# Altium integrated library Xilinx Spartan XL.IntLib: 50 symbols (part 1 of 5)
Pins are listed as number, name and electrical type; pins without a type are passive.

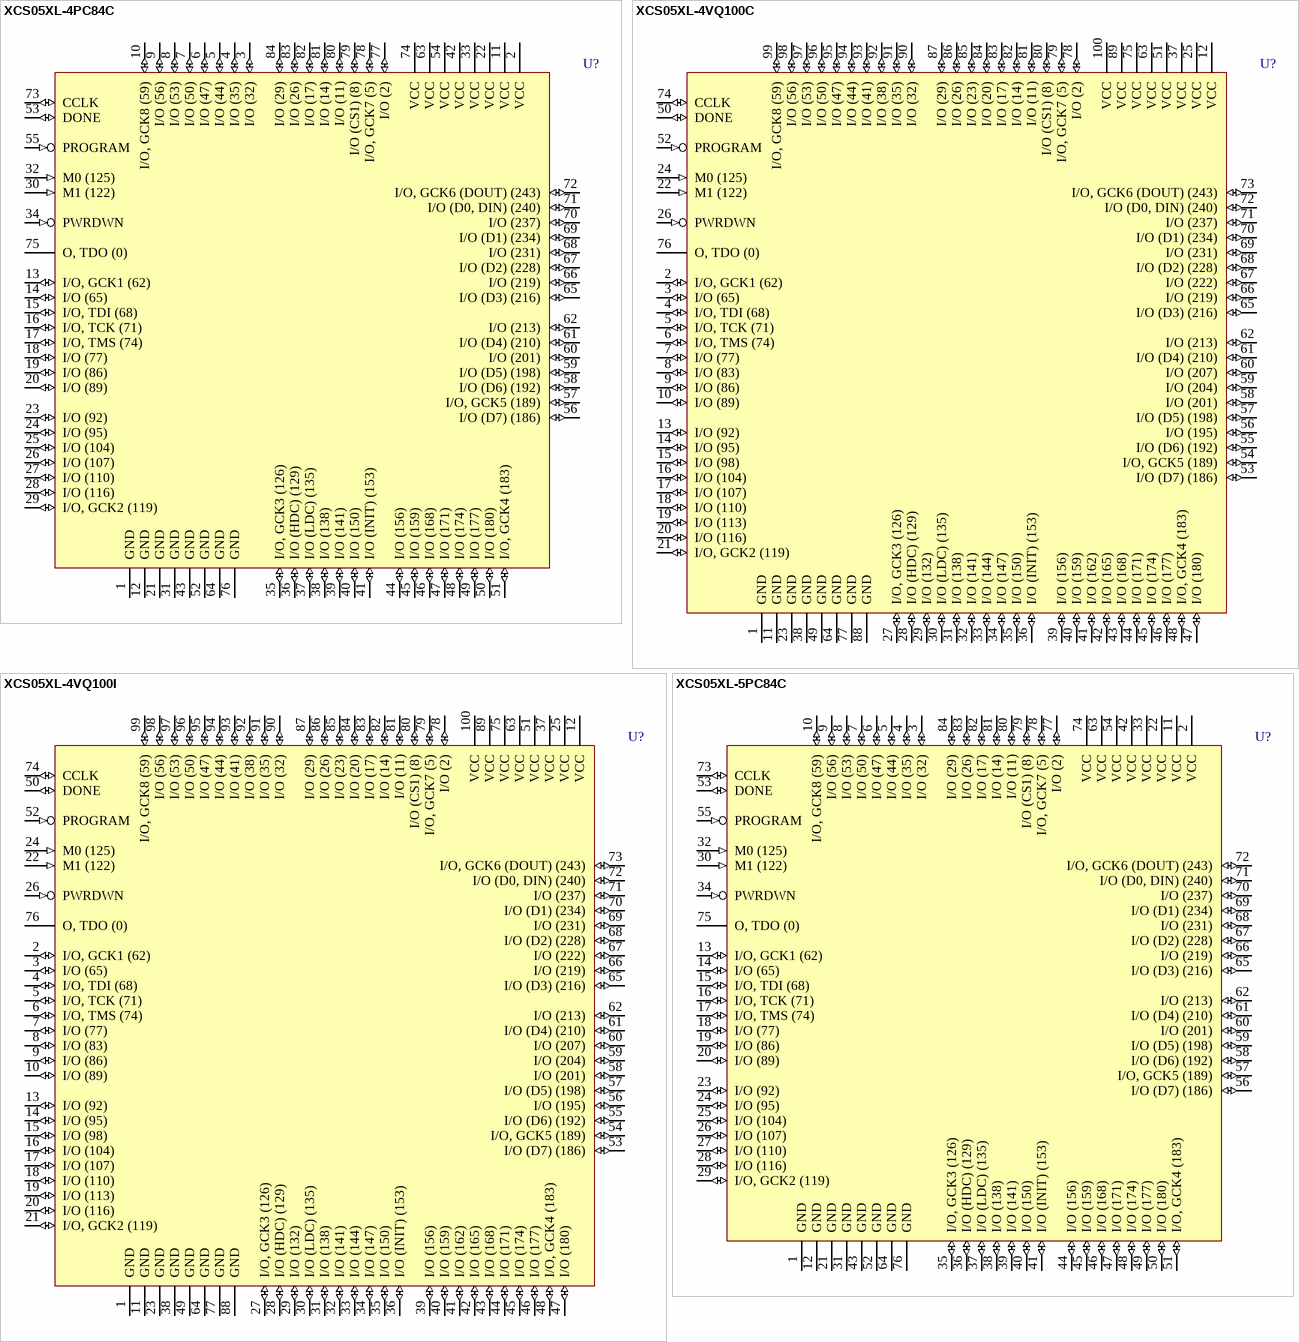
[diagram p0: symbols XCS05XL-4PC84C to XCS05XL-5PC84C]

## XCS05XL-4PC84C
designator U?
Spartan XL FPGA, 61 User I/Os, 84-Pin PLCC, Speed Grade 4, Commercial Grade; Published: 13-Jul-2001; LatestRevisionDate: 16-Nov-2009; LatestRevisionNote: Updated to datasheet version 1.8 Jun-2008; DatasheetVersion: ver1.8, Jun-2008; PackageVersion: ver1.2, Jun-2004; PackageReference: PC84; Publisher: Altium Limited; PackageDescription: 84-Pin Plastic Leaded Chip Carrier (PC84); Supplier 1: Digi-Key; Supplier Part Number 1: XCS05XL-4PC84C-ND; Code_JEDEC: MS-047; Code_IPC: PLCC-84; ComponentLink1Description: Spartan(XL) Datasheet; ComponentLink1URL: http://www.xilinx.com/support/documentation/data_sheets/ds060.pdf; ComponentLink2Description: Discontinuation Notice; ComponentLink2URL: http://www.xilinx.com/support/documentation/customer_notices/pdn2004-01.pdf; ComponentLink3Description: PC84 Package Drawing; ComponentLink3URL: http://www.xilinx.com/support/documentation/package_specs/pc84.pdf; ComponentLink4Description: Spartan(XL) Documents; ComponentLink4URL: http://www.xilinx.com/support/documentation/spartan-xl.htm; ComponentLink5Description: Xilinx.com Home; ComponentLink5URL: http://www.xilinx.com
footprint PC84_N (Leaded Chip Carrier, 84-Leads, Body 29.3x29.3mm, Pitch 1.27mm, IPC Medium Density)
footprint PC84_L (Leaded Chip Carrier, 84-Leads, Body 29.3x29.3mm, Pitch 1.27mm, IPC High Density)
footprint PC84_M (Leaded Chip Carrier, 84-Leads, Body 29.3x29.3mm, Pitch 1.27mm, IPC Low Density)
pins: 1 GND (power), 2 VCC (power), 3 I/O (32) (io), 4 I/O (35) (io), 5 I/O (44) (io), 6 I/O (47) (io), 7 I/O (50) (io), 8 I/O (53) (io), 9 I/O (56) (io), 10 I/O, GCK8 (59) (io), 11 VCC (power), 12 GND (power), 13 I/O, GCK1 (62) (io), 14 I/O (65) (io), 15 I/O, TDI (68) (io), 16 I/O, TCK (71) (io), 17 I/O, TMS (74) (io), 18 I/O (77) (io), 19 I/O (86) (io), 20 I/O (89) (io), 21 GND (power), 22 VCC (power), 23 I/O (92) (io), 24 I/O (95) (io), 25 I/O (104) (io), 26 I/O (107) (io), 27 I/O (110) (io), 28 I/O (116) (io), 29 I/O, GCK2 (119) (io), 30 M1 (122) (in), 31 GND (power), 32 M0 (125) (in), 33 VCC (power), 34 PWRDWN (in), 35 I/O, GCK3 (126) (io), 36 I/O (HDC) (129) (io), 37 I/O (LDC) (135) (io), 38 I/O (138) (io), 39 I/O (141) (io), 40 I/O (150) (io), 41 I/O (INIT) (153) (io), 42 VCC (power), 43 GND (power), 44 I/O (156) (io), 45 I/O (159) (io), 46 I/O (168) (io), 47 I/O (171) (io), 48 I/O (174) (io), 49 I/O (177) (io), 50 I/O (180) (io), 51 I/O, GCK4 (183) (io), 52 GND (power), 53 DONE (io), 54 VCC (power), 55 PROGRAM (in), 56 I/O (D7) (186) (io), 57 I/O, GCK5 (189) (io), 58 I/O (D6) (192) (io), 59 I/O (D5) (198) (io), 60 I/O (201) (io), 61 I/O (D4) (210) (io), 62 I/O (213) (io), 63 VCC (power), 64 GND (power), 65 I/O (D3) (216) (io), 66 I/O (219) (io), 67 I/O (D2) (228) (io), 68 I/O (231) (io), 69 I/O (D1) (234) (io), 70 I/O (237) (io), 71 I/O (D0, DIN) (240) (io), 72 I/O, GCK6 (DOUT) (243) (io), 73 CCLK (io), 74 VCC (power), 75 O, TDO (0) (hiz), 76 GND (power), 77 I/O (2) (io), 78 I/O, GCK7 (5) (io), 79 I/O (CS1) (8) (io), 80 I/O (11) (io), 81 I/O (14) (io), 82 I/O (17) (io), 83 I/O (26) (io), 84 I/O (29) (io)

## XCS05XL-4VQ100C
designator U?
Spartan XL FPGA, 77 User I/Os, 100-Pin VQFP, Speed Grade 4, Commercial Grade; Published: 13-Jul-2001; LatestRevisionDate: 16-Nov-2009; LatestRevisionNote: Updated to datasheet version 1.8 Jun-2008; DatasheetVersion: ver1.8, Jun-2008; PackageVersion: ver1.2.1, Feb-2007; PackageReference: VQ100; Publisher: Altium Limited; PackageDescription: 100-Pin Very Thin Quad Flat Pack (VQ100); Supplier 1: Digi-Key; Supplier Part Number 1: XCS05XL-4VQ100C-ND; Supplier 2: Farnell; Supplier Part Number 2: 3849107; Supplier 3: Newark; Supplier Part Number 3: 10N9195; Code_JEDEC: MS-026-AED; ComponentLink1Description: Spartan(XL) Datasheet; ComponentLink1URL: http://www.xilinx.com/support/documentation/data_sheets/ds060.pdf; ComponentLink2Description: VQ100 Package Drawing; ComponentLink2URL: http://www.xilinx.com/support/documentation/package_specs/vq100.pdf; ComponentLink3Description: Spartan(XL) Documents; ComponentLink3URL: http://www.xilinx.com/support/documentation/spartan-xl.htm; ComponentLink4Description: Xilinx.com Home; ComponentLink4URL: http://www.xilinx.com
footprint VQ100_N (Thin QFP, 100-Leads, Body 14x14mm, Pitch 0.5mm, IPC Medium Density)
footprint VQ100_L (Thin QFP, 100-Leads, Body 14x14mm, Pitch 0.5mm, IPC High Density)
footprint VQ100_M (Thin QFP, 100-Leads, Body 14x14mm, Pitch 0.5mm, IPC Low Density)
pins: 1 GND (power), 2 I/O, GCK1 (62) (io), 3 I/O (65) (io), 4 I/O, TDI (68) (io), 5 I/O, TCK (71) (io), 6 I/O, TMS (74) (io), 7 I/O (77) (io), 8 I/O (83) (io), 9 I/O (86) (io), 10 I/O (89) (io), 11 GND (power), 12 VCC (power), 13 I/O (92) (io), 14 I/O (95) (io), 15 I/O (98) (io), 16 I/O (104) (io), 17 I/O (107) (io), 18 I/O (110) (io), 19 I/O (113) (io), 20 I/O (116) (io), 21 I/O, GCK2 (119) (io), 22 M1 (122) (in), 23 GND (power), 24 M0 (125) (in), 25 VCC (power), 26 PWRDWN (in), 27 I/O, GCK3 (126) (io), 28 I/O (HDC) (129) (io), 29 I/O (132) (io), 30 I/O (LDC) (135) (io), 31 I/O (138) (io), 32 I/O (141) (io), 33 I/O (144) (io), 34 I/O (147) (io), 35 I/O (150) (io), 36 I/O (INIT) (153) (io), 37 VCC (power), 38 GND (power), 39 I/O (156) (io), 40 I/O (159) (io), 41 I/O (162) (io), 42 I/O (165) (io), 43 I/O (168) (io), 44 I/O (171) (io), 45 I/O (174) (io), 46 I/O (177) (io), 47 I/O (180) (io), 48 I/O, GCK4 (183) (io), 49 GND (power), 50 DONE (io), 51 VCC (power), 52 PROGRAM (in), 53 I/O (D7) (186) (io), 54 I/O, GCK5 (189) (io), 55 I/O (D6) (192) (io), 56 I/O (195) (io), 57 I/O (D5) (198) (io), 58 I/O (201) (io), 59 I/O (204) (io), 60 I/O (207) (io), 61 I/O (D4) (210) (io), 62 I/O (213) (io), 63 VCC (power), 64 GND (power), 65 I/O (D3) (216) (io), 66 I/O (219) (io), 67 I/O (222) (io), 68 I/O (D2) (228) (io), 69 I/O (231) (io), 70 I/O (D1) (234) (io), 71 I/O (237) (io), 72 I/O (D0, DIN) (240) (io), 73 I/O, GCK6 (DOUT) (243) (io), 74 CCLK (io), 75 VCC (power), 76 O, TDO (0) (hiz), 77 GND (power), 78 I/O (2) (io), 79 I/O, GCK7 (5) (io), 80 I/O (CS1) (8) (io), 81 I/O (11) (io), 82 I/O (14) (io), 83 I/O (17) (io), 84 I/O (20) (io), 85 I/O (23) (io), 86 I/O (26) (io), 87 I/O (29) (io), 88 GND (power), 89 VCC (power), 90 I/O (32) (io), 91 I/O (35) (io), 92 I/O (38) (io), 93 I/O (41) (io), 94 I/O (44) (io), 95 I/O (47) (io), 96 I/O (50) (io), 97 I/O (53) (io), 98 I/O (56) (io), 99 I/O, GCK8 (59) (io), 100 VCC (power)

## XCS05XL-4VQ100I
designator U?
Spartan XL FPGA, 77 User I/Os, 100-Pin VQFP, Speed Grade 4, Industrial Grade; Published: 13-Jul-2001; LatestRevisionDate: 16-Nov-2009; LatestRevisionNote: Updated to datasheet version 1.8 Jun-2008; DatasheetVersion: ver1.8, Jun-2008; PackageVersion: ver1.2.1, Feb-2007; PackageReference: VQ100; Publisher: Altium Limited; PackageDescription: 100-Pin Very Thin Quad Flat Pack (VQ100); Supplier 1: Digi-Key; Supplier Part Number 1: XCS05XL-4VQ100I-ND; Code_JEDEC: MS-026-AED; ComponentLink1Description: Spartan(XL) Datasheet; ComponentLink1URL: http://www.xilinx.com/support/documentation/data_sheets/ds060.pdf; ComponentLink2Description: VQ100 Package Drawing; ComponentLink2URL: http://www.xilinx.com/support/documentation/package_specs/vq100.pdf; ComponentLink3Description: Spartan(XL) Documents; ComponentLink3URL: http://www.xilinx.com/support/documentation/spartan-xl.htm; ComponentLink4Description: Xilinx.com Home; ComponentLink4URL: http://www.xilinx.com
footprint VQ100_N (Thin QFP, 100-Leads, Body 14x14mm, Pitch 0.5mm, IPC Medium Density)
footprint VQ100_L (Thin QFP, 100-Leads, Body 14x14mm, Pitch 0.5mm, IPC High Density)
footprint VQ100_M (Thin QFP, 100-Leads, Body 14x14mm, Pitch 0.5mm, IPC Low Density)
pins: 1 GND (power), 2 I/O, GCK1 (62) (io), 3 I/O (65) (io), 4 I/O, TDI (68) (io), 5 I/O, TCK (71) (io), 6 I/O, TMS (74) (io), 7 I/O (77) (io), 8 I/O (83) (io), 9 I/O (86) (io), 10 I/O (89) (io), 11 GND (power), 12 VCC (power), 13 I/O (92) (io), 14 I/O (95) (io), 15 I/O (98) (io), 16 I/O (104) (io), 17 I/O (107) (io), 18 I/O (110) (io), 19 I/O (113) (io), 20 I/O (116) (io), 21 I/O, GCK2 (119) (io), 22 M1 (122) (in), 23 GND (power), 24 M0 (125) (in), 25 VCC (power), 26 PWRDWN (in), 27 I/O, GCK3 (126) (io), 28 I/O (HDC) (129) (io), 29 I/O (132) (io), 30 I/O (LDC) (135) (io), 31 I/O (138) (io), 32 I/O (141) (io), 33 I/O (144) (io), 34 I/O (147) (io), 35 I/O (150) (io), 36 I/O (INIT) (153) (io), 37 VCC (power), 38 GND (power), 39 I/O (156) (io), 40 I/O (159) (io), 41 I/O (162) (io), 42 I/O (165) (io), 43 I/O (168) (io), 44 I/O (171) (io), 45 I/O (174) (io), 46 I/O (177) (io), 47 I/O (180) (io), 48 I/O, GCK4 (183) (io), 49 GND (power), 50 DONE (io), 51 VCC (power), 52 PROGRAM (in), 53 I/O (D7) (186) (io), 54 I/O, GCK5 (189) (io), 55 I/O (D6) (192) (io), 56 I/O (195) (io), 57 I/O (D5) (198) (io), 58 I/O (201) (io), 59 I/O (204) (io), 60 I/O (207) (io), 61 I/O (D4) (210) (io), 62 I/O (213) (io), 63 VCC (power), 64 GND (power), 65 I/O (D3) (216) (io), 66 I/O (219) (io), 67 I/O (222) (io), 68 I/O (D2) (228) (io), 69 I/O (231) (io), 70 I/O (D1) (234) (io), 71 I/O (237) (io), 72 I/O (D0, DIN) (240) (io), 73 I/O, GCK6 (DOUT) (243) (io), 74 CCLK (io), 75 VCC (power), 76 O, TDO (0) (hiz), 77 GND (power), 78 I/O (2) (io), 79 I/O, GCK7 (5) (io), 80 I/O (CS1) (8) (io), 81 I/O (11) (io), 82 I/O (14) (io), 83 I/O (17) (io), 84 I/O (20) (io), 85 I/O (23) (io), 86 I/O (26) (io), 87 I/O (29) (io), 88 GND (power), 89 VCC (power), 90 I/O (32) (io), 91 I/O (35) (io), 92 I/O (38) (io), 93 I/O (41) (io), 94 I/O (44) (io), 95 I/O (47) (io), 96 I/O (50) (io), 97 I/O (53) (io), 98 I/O (56) (io), 99 I/O, GCK8 (59) (io), 100 VCC (power)

## XCS05XL-5PC84C
designator U?
Spartan XL FPGA, 61 User I/Os, 84-Pin PLCC, Speed Grade 5, Commercial Grade; Published: 13-Jul-2001; LatestRevisionDate: 16-Nov-2009; LatestRevisionNote: Updated to datasheet version 1.8 Jun-2008; DatasheetVersion: ver1.8, Jun-2008; PackageVersion: ver1.2, Jun-2004; PackageReference: PC84; Publisher: Altium Limited; PackageDescription: 84-Pin Plastic Leaded Chip Carrier (PC84); Supplier 1: Digi-Key; Supplier Part Number 1: XCS05XL-5PC84C-ND; Code_JEDEC: MS-047; Code_IPC: PLCC-84; ComponentLink1Description: Spartan(XL) Datasheet; ComponentLink1URL: http://www.xilinx.com/support/documentation/data_sheets/ds060.pdf; ComponentLink2Description: Discontinuation Notice; ComponentLink2URL: http://www.xilinx.com/support/documentation/customer_notices/pdn2004-01.pdf; ComponentLink3Description: PC84 Package Drawing; ComponentLink3URL: http://www.xilinx.com/support/documentation/package_specs/pc84.pdf; ComponentLink4Description: Spartan(XL) Documents; ComponentLink4URL: http://www.xilinx.com/support/documentation/spartan-xl.htm; ComponentLink5Description: Xilinx.com Home; ComponentLink5URL: http://www.xilinx.com
footprint PC84_N (Leaded Chip Carrier, 84-Leads, Body 29.3x29.3mm, Pitch 1.27mm, IPC Medium Density)
footprint PC84_L (Leaded Chip Carrier, 84-Leads, Body 29.3x29.3mm, Pitch 1.27mm, IPC High Density)
footprint PC84_M (Leaded Chip Carrier, 84-Leads, Body 29.3x29.3mm, Pitch 1.27mm, IPC Low Density)
pins: 1 GND (power), 2 VCC (power), 3 I/O (32) (io), 4 I/O (35) (io), 5 I/O (44) (io), 6 I/O (47) (io), 7 I/O (50) (io), 8 I/O (53) (io), 9 I/O (56) (io), 10 I/O, GCK8 (59) (io), 11 VCC (power), 12 GND (power), 13 I/O, GCK1 (62) (io), 14 I/O (65) (io), 15 I/O, TDI (68) (io), 16 I/O, TCK (71) (io), 17 I/O, TMS (74) (io), 18 I/O (77) (io), 19 I/O (86) (io), 20 I/O (89) (io), 21 GND (power), 22 VCC (power), 23 I/O (92) (io), 24 I/O (95) (io), 25 I/O (104) (io), 26 I/O (107) (io), 27 I/O (110) (io), 28 I/O (116) (io), 29 I/O, GCK2 (119) (io), 30 M1 (122) (in), 31 GND (power), 32 M0 (125) (in), 33 VCC (power), 34 PWRDWN (in), 35 I/O, GCK3 (126) (io), 36 I/O (HDC) (129) (io), 37 I/O (LDC) (135) (io), 38 I/O (138) (io), 39 I/O (141) (io), 40 I/O (150) (io), 41 I/O (INIT) (153) (io), 42 VCC (power), 43 GND (power), 44 I/O (156) (io), 45 I/O (159) (io), 46 I/O (168) (io), 47 I/O (171) (io), 48 I/O (174) (io), 49 I/O (177) (io), 50 I/O (180) (io), 51 I/O, GCK4 (183) (io), 52 GND (power), 53 DONE (io), 54 VCC (power), 55 PROGRAM (in), 56 I/O (D7) (186) (io), 57 I/O, GCK5 (189) (io), 58 I/O (D6) (192) (io), 59 I/O (D5) (198) (io), 60 I/O (201) (io), 61 I/O (D4) (210) (io), 62 I/O (213) (io), 63 VCC (power), 64 GND (power), 65 I/O (D3) (216) (io), 66 I/O (219) (io), 67 I/O (D2) (228) (io), 68 I/O (231) (io), 69 I/O (D1) (234) (io), 70 I/O (237) (io), 71 I/O (D0, DIN) (240) (io), 72 I/O, GCK6 (DOUT) (243) (io), 73 CCLK (io), 74 VCC (power), 75 O, TDO (0) (hiz), 76 GND (power), 77 I/O (2) (io), 78 I/O, GCK7 (5) (io), 79 I/O (CS1) (8) (io), 80 I/O (11) (io), 81 I/O (14) (io), 82 I/O (17) (io), 83 I/O (26) (io), 84 I/O (29) (io)

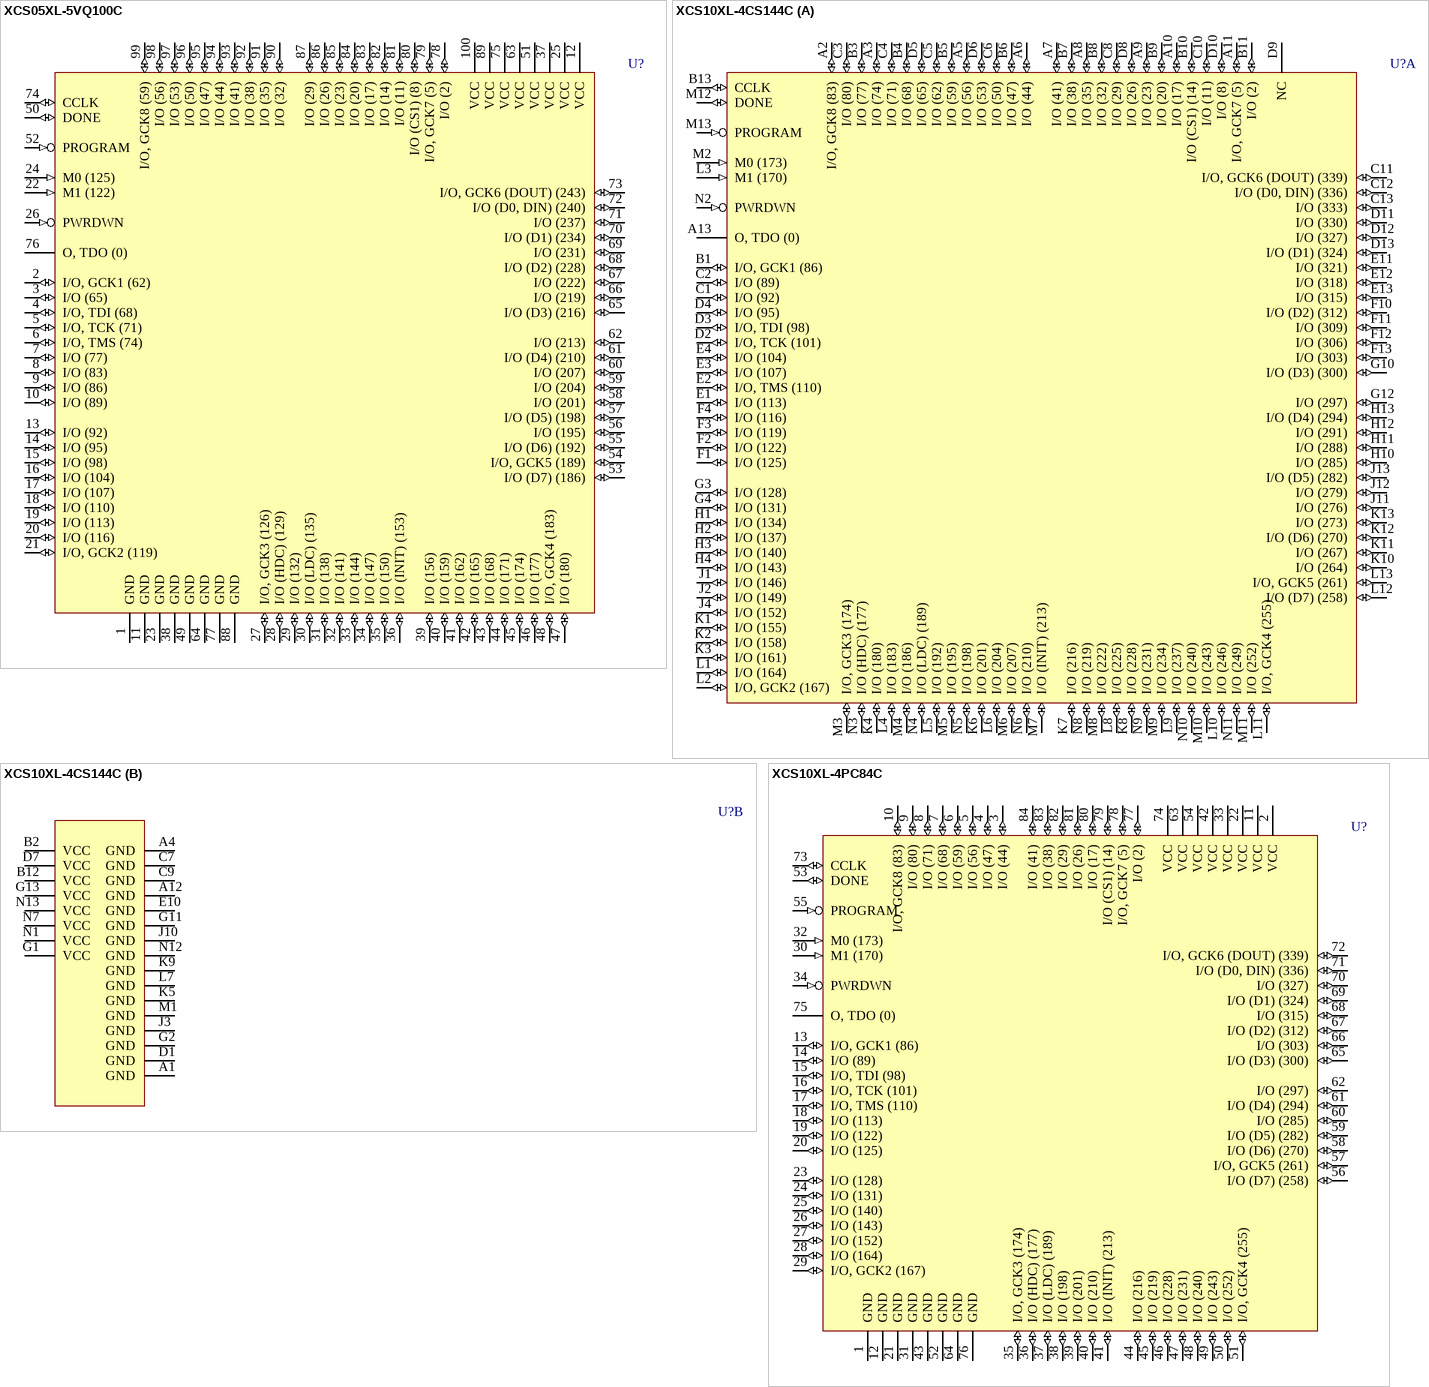
[diagram p1: symbols XCS05XL-5VQ100C to XCS10XL-4PC84C]

## XCS05XL-5VQ100C
designator U?
Spartan XL FPGA, 77 User I/Os, 100-Pin VQFP, Speed Grade 5, Commercial Grade; Published: 13-Jul-2001; LatestRevisionDate: 16-Nov-2009; LatestRevisionNote: Updated to datasheet version 1.8 Jun-2008; DatasheetVersion: ver1.8, Jun-2008; PackageVersion: ver1.2.1, Feb-2007; PackageReference: VQ100; Publisher: Altium Limited; PackageDescription: 100-Pin Very Thin Quad Flat Pack (VQ100); Supplier 1: Digi-Key; Supplier Part Number 1: XCS05XL-5VQ100C-ND; Code_JEDEC: MS-026-AED; ComponentLink1Description: Spartan(XL) Datasheet; ComponentLink1URL: http://www.xilinx.com/support/documentation/data_sheets/ds060.pdf; ComponentLink2Description: VQ100 Package Drawing; ComponentLink2URL: http://www.xilinx.com/support/documentation/package_specs/vq100.pdf; ComponentLink3Description: Spartan(XL) Documents; ComponentLink3URL: http://www.xilinx.com/support/documentation/spartan-xl.htm; ComponentLink4Description: Xilinx.com Home; ComponentLink4URL: http://www.xilinx.com
footprint VQ100_N (Thin QFP, 100-Leads, Body 14x14mm, Pitch 0.5mm, IPC Medium Density)
footprint VQ100_L (Thin QFP, 100-Leads, Body 14x14mm, Pitch 0.5mm, IPC High Density)
footprint VQ100_M (Thin QFP, 100-Leads, Body 14x14mm, Pitch 0.5mm, IPC Low Density)
pins: 1 GND (power), 2 I/O, GCK1 (62) (io), 3 I/O (65) (io), 4 I/O, TDI (68) (io), 5 I/O, TCK (71) (io), 6 I/O, TMS (74) (io), 7 I/O (77) (io), 8 I/O (83) (io), 9 I/O (86) (io), 10 I/O (89) (io), 11 GND (power), 12 VCC (power), 13 I/O (92) (io), 14 I/O (95) (io), 15 I/O (98) (io), 16 I/O (104) (io), 17 I/O (107) (io), 18 I/O (110) (io), 19 I/O (113) (io), 20 I/O (116) (io), 21 I/O, GCK2 (119) (io), 22 M1 (122) (in), 23 GND (power), 24 M0 (125) (in), 25 VCC (power), 26 PWRDWN (in), 27 I/O, GCK3 (126) (io), 28 I/O (HDC) (129) (io), 29 I/O (132) (io), 30 I/O (LDC) (135) (io), 31 I/O (138) (io), 32 I/O (141) (io), 33 I/O (144) (io), 34 I/O (147) (io), 35 I/O (150) (io), 36 I/O (INIT) (153) (io), 37 VCC (power), 38 GND (power), 39 I/O (156) (io), 40 I/O (159) (io), 41 I/O (162) (io), 42 I/O (165) (io), 43 I/O (168) (io), 44 I/O (171) (io), 45 I/O (174) (io), 46 I/O (177) (io), 47 I/O (180) (io), 48 I/O, GCK4 (183) (io), 49 GND (power), 50 DONE (io), 51 VCC (power), 52 PROGRAM (in), 53 I/O (D7) (186) (io), 54 I/O, GCK5 (189) (io), 55 I/O (D6) (192) (io), 56 I/O (195) (io), 57 I/O (D5) (198) (io), 58 I/O (201) (io), 59 I/O (204) (io), 60 I/O (207) (io), 61 I/O (D4) (210) (io), 62 I/O (213) (io), 63 VCC (power), 64 GND (power), 65 I/O (D3) (216) (io), 66 I/O (219) (io), 67 I/O (222) (io), 68 I/O (D2) (228) (io), 69 I/O (231) (io), 70 I/O (D1) (234) (io), 71 I/O (237) (io), 72 I/O (D0, DIN) (240) (io), 73 I/O, GCK6 (DOUT) (243) (io), 74 CCLK (io), 75 VCC (power), 76 O, TDO (0) (hiz), 77 GND (power), 78 I/O (2) (io), 79 I/O, GCK7 (5) (io), 80 I/O (CS1) (8) (io), 81 I/O (11) (io), 82 I/O (14) (io), 83 I/O (17) (io), 84 I/O (20) (io), 85 I/O (23) (io), 86 I/O (26) (io), 87 I/O (29) (io), 88 GND (power), 89 VCC (power), 90 I/O (32) (io), 91 I/O (35) (io), 92 I/O (38) (io), 93 I/O (41) (io), 94 I/O (44) (io), 95 I/O (47) (io), 96 I/O (50) (io), 97 I/O (53) (io), 98 I/O (56) (io), 99 I/O, GCK8 (59) (io), 100 VCC (power)

## XCS10XL-4CS144C
designator U?
Spartan XL FPGA, 112 User I/Os, 144-Ball CSBGA, Speed Grade 4, Commercial Grade; Published: 13-Jul-2001; LatestRevisionDate: 16-Nov-2009; LatestRevisionNote: Updated to datasheet version 1.8 Jun-2008; DatasheetVersion: ver1.8, Jun-2008; PackageVersion: ver1.3, Jan-2007; PackageReference: CS144; Publisher: Altium Limited; PackageDescription: 144-Ball Chip Scale Ball Grid Array (CS144); Supplier 1: Digi-Key; Supplier Part Number 1: XCS10XL-4CS144C-ND; Code_JEDEC: MO-216-BAG-2 (Depopulated); ComponentLink1Description: Spartan(XL) Datasheet; ComponentLink1URL: http://www.xilinx.com/support/documentation/data_sheets/ds060.pdf; ComponentLink2Description: Discontinuation Notice; ComponentLink2URL: http://www.xilinx.com/support/documentation/customer_notices/pdn2004-01.pdf; ComponentLink3Description: CS144 Package Drawing; ComponentLink3URL: http://www.xilinx.com/support/documentation/package_specs/cs144.pdf; ComponentLink4Description: Spartan(XL) Documents; ComponentLink4URL: http://www.xilinx.com/support/documentation/spartan-xl.htm; ComponentLink5Description: Xilinx.com Home; ComponentLink5URL: http://www.xilinx.com
footprint CS144 (BGA, 144-Leads, Body 12x12mm, Pitch 0.8mm)
part A pins: A2 I/O, GCK8 (83) (io), A3 I/O (74) (io), A5 I/O (56) (io), A6 I/O (44) (io), A7 I/O (41) (io), A8 I/O (35) (io), A9 I/O (23) (io), A10 I/O (17) (io), A11 I/O, GCK7 (5) (io), A13 O, TDO (0) (hiz), B1 I/O, GCK1 (86) (io), B3 I/O (77) (io), B4 I/O (68) (io), B5 I/O (59) (io), B6 I/O (47) (io), B7 I/O (38) (io), B8 I/O (32) (io), B9 I/O (20) (io), B10 I/O (CS1) (14) (io), B11 I/O (2) (io), B13 CCLK (io), C1 I/O (92) (io), C2 I/O (89) (io), C3 I/O (80) (io), C4 I/O (71) (io), C5 I/O (62) (io), C6 I/O (50) (io), C8 I/O (29) (io), C10 I/O (11) (io), C11 I/O, GCK6 (DOUT) (339) (io), C12 I/O (D0, DIN) (336) (io), C13 I/O (333) (io), D2 I/O, TCK (101) (io), D3 I/O, TDI (98) (io), D4 I/O (95) (io), D5 I/O (65) (io), D6 I/O (53) (io), D8 I/O (26) (io), D9 NC, D10 I/O (8) (io), D11 I/O (330) (io), D12 I/O (327) (io), D13 I/O (D1) (324) (io), E1 I/O (113) (io), E2 I/O, TMS (110) (io), E3 I/O (107) (io), E4 I/O (104) (io), E11 I/O (321) (io), E12 I/O (318) (io), E13 I/O (315) (io), F1 I/O (125) (io), F2 I/O (122) (io), F3 I/O (119) (io), F4 I/O (116) (io), F10 I/O (D2) (312) (io), F11 I/O (309) (io), F12 I/O (306) (io), F13 I/O (303) (io), G3 I/O (128) (io), G4 I/O (131) (io), G10 I/O (D3) (300) (io), G12 I/O (297) (io), H1 I/O (134) (io), H2 I/O (137) (io), H3 I/O (140) (io), H4 I/O (143) (io), H10 I/O (285) (io), H11 I/O (288) (io), H12 I/O (291) (io), H13 I/O (D4) (294) (io), J1 I/O (146) (io), J2 I/O (149) (io), J4 I/O (152) (io), J11 I/O (276) (io), J12 I/O (279) (io), J13 I/O (D5) (282) (io), K1 I/O (155) (io), K2 I/O (158) (io), K3 I/O (161) (io), K4 I/O (180) (io), K6 I/O (201) (io), K7 I/O (216) (io), K8 I/O (228) (io), K10 I/O (264) (io), K11 I/O (267) (io), K12 I/O (D6) (270) (io), K13 I/O (273) (io), L1 I/O (164) (io), L2 I/O, GCK2 (167) (io), L3 M1 (170) (in), L4 I/O (183) (io), L5 I/O (192) (io), L6 I/O (204) (io), L8 I/O (225) (io), L9 I/O (237) (io), L10 I/O (246) (io), L11 I/O, GCK4 (255) (io), L12 I/O (D7) (258) (io), L13 I/O, GCK5 (261) (io), M2 M0 (173) (in), M3 I/O, GCK3 (174) (io), M4 I/O (186) (io), M5 I/O (195) (io), M6 I/O (207) (io), M7 I/O (INIT) (213) (io), M8 I/O (222) (io), M9 I/O (234) (io), M10 I/O (243) (io), M11 I/O (252) (io), M12 DONE (io), M13 PROGRAM (in), N2 PWRDWN (in), N3 I/O (HDC) (177) (io), N4 I/O (LDC) (189) (io), N5 I/O (198) (io), N6 I/O (210) (io), N8 I/O (219) (io), N9 I/O (231) (io), N10 I/O (240) (io), N11 I/O (249) (io)
part B pins: A1 GND (power), A4 GND (power), A12 GND (power), B2 VCC (power), B12 VCC (power), C7 GND (power), C9 GND (power), D1 GND (power), D7 VCC (power), E10 GND (power), G1 VCC (power), G2 GND (power), G11 GND (power), G13 VCC (power), J3 GND (power), J10 GND (power), K5 GND (power), K9 GND (power), L7 GND (power), M1 GND (power), N1 VCC (power), N7 VCC (power), N12 GND (power), N13 VCC (power)

## XCS10XL-4PC84C
designator U?
Spartan XL FPGA, 61 User I/Os, 84-Pin PLCC, Speed Grade 4, Commercial Grade; Published: 13-Jul-2001; LatestRevisionDate: 16-Nov-2009; LatestRevisionNote: Updated to datasheet version 1.8 Jun-2008; DatasheetVersion: ver1.8, Jun-2008; PackageVersion: ver1.2, Jun-2004; PackageReference: PC84; Publisher: Altium Limited; PackageDescription: 84-Pin Plastic Leaded Chip Carrier (PC84); Supplier 1: Digi-Key; Supplier Part Number 1: XCS10XL-4PC84C-ND; Supplier 2: Farnell; Supplier Part Number 2: 3849120; Code_JEDEC: MS-047; Code_IPC: PLCC-84; ComponentLink1Description: Spartan(XL) Datasheet; ComponentLink1URL: http://www.xilinx.com/support/documentation/data_sheets/ds060.pdf; ComponentLink2Description: Discontinuation Notice; ComponentLink2URL: http://www.xilinx.com/support/documentation/customer_notices/pdn2004-01.pdf; ComponentLink3Description: PC84 Package Drawing; ComponentLink3URL: http://www.xilinx.com/support/documentation/package_specs/pc84.pdf; ComponentLink4Description: Spartan(XL) Documents; ComponentLink4URL: http://www.xilinx.com/support/documentation/spartan-xl.htm; ComponentLink5Description: Xilinx.com Home; ComponentLink5URL: http://www.xilinx.com
footprint PC84_N (Leaded Chip Carrier, 84-Leads, Body 29.3x29.3mm, Pitch 1.27mm, IPC Medium Density)
footprint PC84_L (Leaded Chip Carrier, 84-Leads, Body 29.3x29.3mm, Pitch 1.27mm, IPC High Density)
footprint PC84_M (Leaded Chip Carrier, 84-Leads, Body 29.3x29.3mm, Pitch 1.27mm, IPC Low Density)
pins: 1 GND (power), 2 VCC (power), 3 I/O (44) (io), 4 I/O (47) (io), 5 I/O (56) (io), 6 I/O (59) (io), 7 I/O (68) (io), 8 I/O (71) (io), 9 I/O (80) (io), 10 I/O, GCK8 (83) (io), 11 VCC (power), 12 GND (power), 13 I/O, GCK1 (86) (io), 14 I/O (89) (io), 15 I/O, TDI (98) (io), 16 I/O, TCK (101) (io), 17 I/O, TMS (110) (io), 18 I/O (113) (io), 19 I/O (122) (io), 20 I/O (125) (io), 21 GND (power), 22 VCC (power), 23 I/O (128) (io), 24 I/O (131) (io), 25 I/O (140) (io), 26 I/O (143) (io), 27 I/O (152) (io), 28 I/O (164) (io), 29 I/O, GCK2 (167) (io), 30 M1 (170) (in), 31 GND (power), 32 M0 (173) (in), 33 VCC (power), 34 PWRDWN (in), 35 I/O, GCK3 (174) (io), 36 I/O (HDC) (177) (io), 37 I/O (LDC) (189) (io), 38 I/O (198) (io), 39 I/O (201) (io), 40 I/O (210) (io), 41 I/O (INIT) (213) (io), 42 VCC (power), 43 GND (power), 44 I/O (216) (io), 45 I/O (219) (io), 46 I/O (228) (io), 47 I/O (231) (io), 48 I/O (240) (io), 49 I/O (243) (io), 50 I/O (252) (io), 51 I/O, GCK4 (255) (io), 52 GND (power), 53 DONE (io), 54 VCC (power), 55 PROGRAM (in), 56 I/O (D7) (258) (io), 57 I/O, GCK5 (261) (io), 58 I/O (D6) (270) (io), 59 I/O (D5) (282) (io), 60 I/O (285) (io), 61 I/O (D4) (294) (io), 62 I/O (297) (io), 63 VCC (power), 64 GND (power), 65 I/O (D3) (300) (io), 66 I/O (303) (io), 67 I/O (D2) (312) (io), 68 I/O (315) (io), 69 I/O (D1) (324) (io), 70 I/O (327) (io), 71 I/O (D0, DIN) (336) (io), 72 I/O, GCK6 (DOUT) (339) (io), 73 CCLK (io), 74 VCC (power), 75 O, TDO (0) (hiz), 76 GND (power), 77 I/O (2) (io), 78 I/O, GCK7 (5) (io), 79 I/O (CS1) (14) (io), 80 I/O (17) (io), 81 I/O (26) (io), 82 I/O (29) (io), 83 I/O (38) (io), 84 I/O (41) (io)

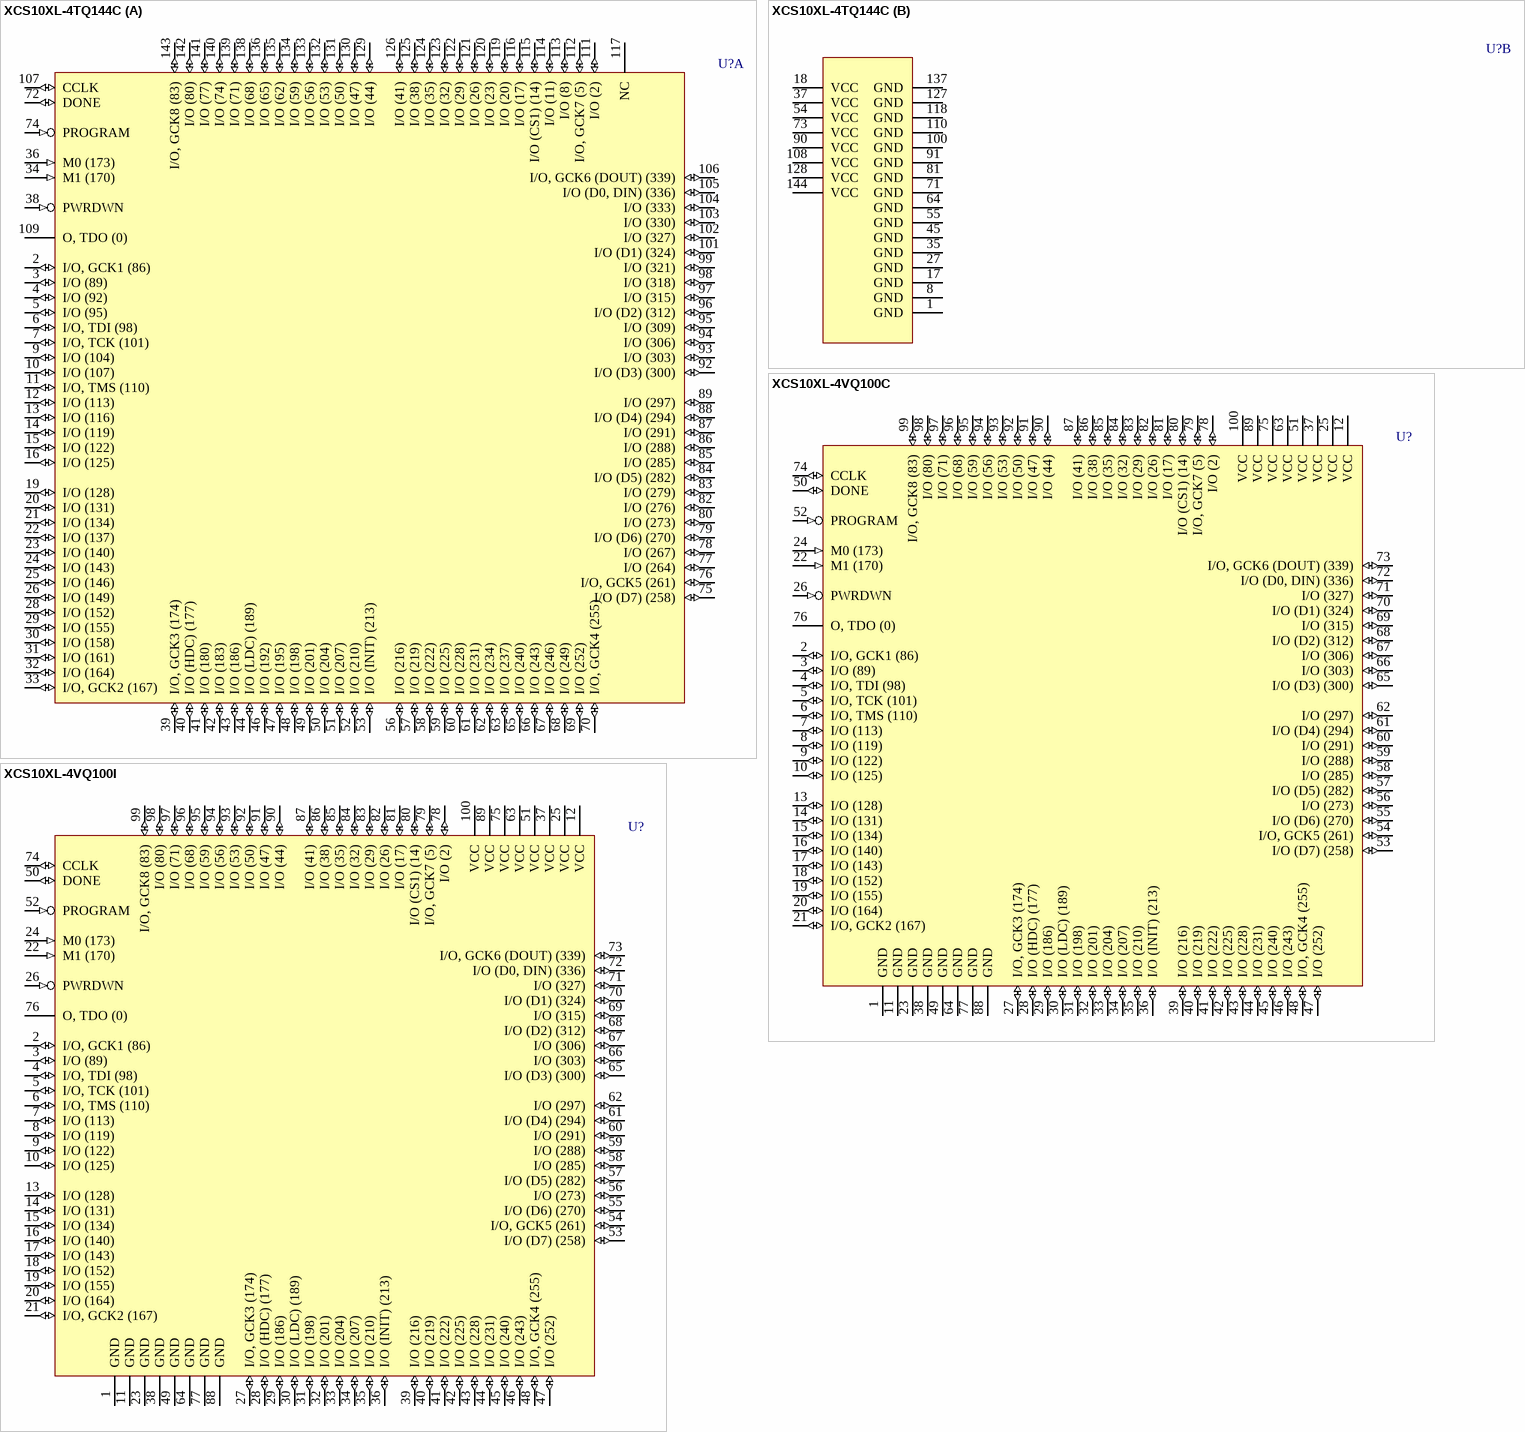
[diagram p2: symbols XCS10XL-4TQ144C to XCS10XL-4VQ100I]

## XCS10XL-4TQ144C
designator U?
Spartan XL FPGA, 112 User I/Os, 144-Pin TQFP, Speed Grade 4, Commercial Grade; Published: 13-Jul-2001; LatestRevisionDate: 16-Nov-2009; LatestRevisionNote: Updated to datasheet version 1.8 Jun-2008; DatasheetVersion: ver1.8, Jun-2008; PackageVersion: ver1.2, Jun-2004; PackageReference: TQ144; Publisher: Altium Limited; PackageDescription: 144-Pin Thin Quad Flat Pack (TQ144); Supplier 1: Digi-Key; Supplier Part Number 1: XCS10XL-4TQ144C-ND; Supplier 2: Farnell; Supplier Part Number 2: 3849132; Code_JEDEC: MS-026-BFB; ComponentLink1Description: Spartan(XL) Datasheet; ComponentLink1URL: http://www.xilinx.com/support/documentation/data_sheets/ds060.pdf; ComponentLink2Description: TQ144 Package Drawing; ComponentLink2URL: http://www.xilinx.com/support/documentation/package_specs/tq144.pdf; ComponentLink3Description: Spartan(XL) Documents; ComponentLink3URL: http://www.xilinx.com/support/documentation/spartan-xl.htm; ComponentLink4Description: Xilinx.com Home; ComponentLink4URL: http://www.xilinx.com
footprint TQ144_N (Thin QFP, 144-Leads, Body 20x20mm, Pitch 0.5mm, IPC Medium Density)
footprint TQ144_L (Thin QFP, 144-Leads, Body 20x20mm, Pitch 0.5mm, IPC High Density)
footprint TQ144_M (Thin QFP, 144-Leads, Body 20x20mm, Pitch 0.5mm, IPC Low Density)
part A pins: 2 I/O, GCK1 (86) (io), 3 I/O (89) (io), 4 I/O (92) (io), 5 I/O (95) (io), 6 I/O, TDI (98) (io), 7 I/O, TCK (101) (io), 9 I/O (104) (io), 10 I/O (107) (io), 11 I/O, TMS (110) (io), 12 I/O (113) (io), 13 I/O (116) (io), 14 I/O (119) (io), 15 I/O (122) (io), 16 I/O (125) (io), 19 I/O (128) (io), 20 I/O (131) (io), 21 I/O (134) (io), 22 I/O (137) (io), 23 I/O (140) (io), 24 I/O (143) (io), 25 I/O (146) (io), 26 I/O (149) (io), 28 I/O (152) (io), 29 I/O (155) (io), 30 I/O (158) (io), 31 I/O (161) (io), 32 I/O (164) (io), 33 I/O, GCK2 (167) (io), 34 M1 (170) (in), 36 M0 (173) (in), 38 PWRDWN (in), 39 I/O, GCK3 (174) (io), 40 I/O (HDC) (177) (io), 41 I/O (180) (io), 42 I/O (183) (io), 43 I/O (186) (io), 44 I/O (LDC) (189) (io), 46 I/O (192) (io), 47 I/O (195) (io), 48 I/O (198) (io), 49 I/O (201) (io), 50 I/O (204) (io), 51 I/O (207) (io), 52 I/O (210) (io), 53 I/O (INIT) (213) (io), 56 I/O (216) (io), 57 I/O (219) (io), 58 I/O (222) (io), 59 I/O (225) (io), 60 I/O (228) (io), 61 I/O (231) (io), 62 I/O (234) (io), 63 I/O (237) (io), 65 I/O (240) (io), 66 I/O (243) (io), 67 I/O (246) (io), 68 I/O (249) (io), 69 I/O (252) (io), 70 I/O, GCK4 (255) (io), 72 DONE (io), 74 PROGRAM (in), 75 I/O (D7) (258) (io), 76 I/O, GCK5 (261) (io), 77 I/O (264) (io), 78 I/O (267) (io), 79 I/O (D6) (270) (io), 80 I/O (273) (io), 82 I/O (276) (io), 83 I/O (279) (io), 84 I/O (D5) (282) (io), 85 I/O (285) (io), 86 I/O (288) (io), 87 I/O (291) (io), 88 I/O (D4) (294) (io), 89 I/O (297) (io), 92 I/O (D3) (300) (io), 93 I/O (303) (io), 94 I/O (306) (io), 95 I/O (309) (io), 96 I/O (D2) (312) (io), 97 I/O (315) (io), 98 I/O (318) (io), 99 I/O (321) (io), 101 I/O (D1) (324) (io), 102 I/O (327) (io), 103 I/O (330) (io), 104 I/O (333) (io), 105 I/O (D0, DIN) (336) (io), 106 I/O, GCK6 (DOUT) (339) (io), 107 CCLK (io), 109 O, TDO (0) (hiz), 111 I/O (2) (io), 112 I/O, GCK7 (5) (io), 113 I/O (8) (io), 114 I/O (11) (io), 115 I/O (CS1) (14) (io), 116 I/O (17) (io), 117 NC, 119 I/O (20) (io), 120 I/O (23) (io), 121 I/O (26) (io), 122 I/O (29) (io), 123 I/O (32) (io), 124 I/O (35) (io), 125 I/O (38) (io), 126 I/O (41) (io), 129 I/O (44) (io), 130 I/O (47) (io), 131 I/O (50) (io), 132 I/O (53) (io), 133 I/O (56) (io), 134 I/O (59) (io), 135 I/O (62) (io), 136 I/O (65) (io), 138 I/O (68) (io), 139 I/O (71) (io), 140 I/O (74) (io), 141 I/O (77) (io), 142 I/O (80) (io), 143 I/O, GCK8 (83) (io)
part B pins: 1 GND (power), 8 GND (power), 17 GND (power), 18 VCC (power), 27 GND (power), 35 GND (power), 37 VCC (power), 45 GND (power), 54 VCC (power), 55 GND (power), 64 GND (power), 71 GND (power), 73 VCC (power), 81 GND (power), 90 VCC (power), 91 GND (power), 100 GND (power), 108 VCC (power), 110 GND (power), 118 GND (power), 127 GND (power), 128 VCC (power), 137 GND (power), 144 VCC (power)

## XCS10XL-4VQ100C
designator U?
Spartan XL FPGA, 77 User I/Os, 100-Pin VQFP, Speed Grade 4, Commercial Grade; Published: 13-Jul-2001; LatestRevisionDate: 16-Nov-2009; LatestRevisionNote: Updated to datasheet version 1.8 Jun-2008; DatasheetVersion: ver1.8, Jun-2008; PackageVersion: ver1.2.1, Feb-2007; PackageReference: VQ100; Publisher: Altium Limited; PackageDescription: 100-Pin Very Thin Quad Flat Pack (VQ100); Supplier 1: Digi-Key; Supplier Part Number 1: XCS10XL-4VQ100C-ND; Supplier 2: Farnell; Supplier Part Number 2: 3849144; Code_JEDEC: MS-026-AED; ComponentLink1Description: Spartan(XL) Datasheet; ComponentLink1URL: http://www.xilinx.com/support/documentation/data_sheets/ds060.pdf; ComponentLink2Description: VQ100 Package Drawing; ComponentLink2URL: http://www.xilinx.com/support/documentation/package_specs/vq100.pdf; ComponentLink3Description: Spartan(XL) Documents; ComponentLink3URL: http://www.xilinx.com/support/documentation/spartan-xl.htm; ComponentLink4Description: Xilinx.com Home; ComponentLink4URL: http://www.xilinx.com
footprint VQ100_N (Thin QFP, 100-Leads, Body 14x14mm, Pitch 0.5mm, IPC Medium Density)
footprint VQ100_L (Thin QFP, 100-Leads, Body 14x14mm, Pitch 0.5mm, IPC High Density)
footprint VQ100_M (Thin QFP, 100-Leads, Body 14x14mm, Pitch 0.5mm, IPC Low Density)
pins: 1 GND (power), 2 I/O, GCK1 (86) (io), 3 I/O (89) (io), 4 I/O, TDI (98) (io), 5 I/O, TCK (101) (io), 6 I/O, TMS (110) (io), 7 I/O (113) (io), 8 I/O (119) (io), 9 I/O (122) (io), 10 I/O (125) (io), 11 GND (power), 12 VCC (power), 13 I/O (128) (io), 14 I/O (131) (io), 15 I/O (134) (io), 16 I/O (140) (io), 17 I/O (143) (io), 18 I/O (152) (io), 19 I/O (155) (io), 20 I/O (164) (io), 21 I/O, GCK2 (167) (io), 22 M1 (170) (in), 23 GND (power), 24 M0 (173) (in), 25 VCC (power), 26 PWRDWN (in), 27 I/O, GCK3 (174) (io), 28 I/O (HDC) (177) (io), 29 I/O (186) (io), 30 I/O (LDC) (189) (io), 31 I/O (198) (io), 32 I/O (201) (io), 33 I/O (204) (io), 34 I/O (207) (io), 35 I/O (210) (io), 36 I/O (INIT) (213) (io), 37 VCC (power), 38 GND (power), 39 I/O (216) (io), 40 I/O (219) (io), 41 I/O (222) (io), 42 I/O (225) (io), 43 I/O (228) (io), 44 I/O (231) (io), 45 I/O (240) (io), 46 I/O (243) (io), 47 I/O (252) (io), 48 I/O, GCK4 (255) (io), 49 GND (power), 50 DONE (io), 51 VCC (power), 52 PROGRAM (in), 53 I/O (D7) (258) (io), 54 I/O, GCK5 (261) (io), 55 I/O (D6) (270) (io), 56 I/O (273) (io), 57 I/O (D5) (282) (io), 58 I/O (285) (io), 59 I/O (288) (io), 60 I/O (291) (io), 61 I/O (D4) (294) (io), 62 I/O (297) (io), 63 VCC (power), 64 GND (power), 65 I/O (D3) (300) (io), 66 I/O (303) (io), 67 I/O (306) (io), 68 I/O (D2) (312) (io), 69 I/O (315) (io), 70 I/O (D1) (324) (io), 71 I/O (327) (io), 72 I/O (D0, DIN) (336) (io), 73 I/O, GCK6 (DOUT) (339) (io), 74 CCLK (io), 75 VCC (power), 76 O, TDO (0) (hiz), 77 GND (power), 78 I/O (2) (io), 79 I/O, GCK7 (5) (io), 80 I/O (CS1) (14) (io), 81 I/O (17) (io), 82 I/O (26) (io), 83 I/O (29) (io), 84 I/O (32) (io), 85 I/O (35) (io), 86 I/O (38) (io), 87 I/O (41) (io), 88 GND (power), 89 VCC (power), 90 I/O (44) (io), 91 I/O (47) (io), 92 I/O (50) (io), 93 I/O (53) (io), 94 I/O (56) (io), 95 I/O (59) (io), 96 I/O (68) (io), 97 I/O (71) (io), 98 I/O (80) (io), 99 I/O, GCK8 (83) (io), 100 VCC (power)

## XCS10XL-4VQ100I
designator U?
Spartan XL FPGA, 77 User I/Os, 100-Pin VQFP, Speed Grade 4, Industrial Grade; Published: 13-Jul-2001; LatestRevisionDate: 16-Nov-2009; LatestRevisionNote: Updated to datasheet version 1.8 Jun-2008; DatasheetVersion: ver1.8, Jun-2008; PackageVersion: ver1.2.1, Feb-2007; PackageReference: VQ100; Publisher: Altium Limited; PackageDescription: 100-Pin Very Thin Quad Flat Pack (VQ100); Supplier 1: Digi-Key; Supplier Part Number 1: XCS10XL-4VQ100I-ND; Code_JEDEC: MS-026-AED; ComponentLink1Description: Spartan(XL) Datasheet; ComponentLink1URL: http://www.xilinx.com/support/documentation/data_sheets/ds060.pdf; ComponentLink2Description: VQ100 Package Drawing; ComponentLink2URL: http://www.xilinx.com/support/documentation/package_specs/vq100.pdf; ComponentLink3Description: Spartan(XL) Documents; ComponentLink3URL: http://www.xilinx.com/support/documentation/spartan-xl.htm; ComponentLink4Description: Xilinx.com Home; ComponentLink4URL: http://www.xilinx.com
footprint VQ100_N (Thin QFP, 100-Leads, Body 14x14mm, Pitch 0.5mm, IPC Medium Density)
footprint VQ100_L (Thin QFP, 100-Leads, Body 14x14mm, Pitch 0.5mm, IPC High Density)
footprint VQ100_M (Thin QFP, 100-Leads, Body 14x14mm, Pitch 0.5mm, IPC Low Density)
pins: 1 GND (power), 2 I/O, GCK1 (86) (io), 3 I/O (89) (io), 4 I/O, TDI (98) (io), 5 I/O, TCK (101) (io), 6 I/O, TMS (110) (io), 7 I/O (113) (io), 8 I/O (119) (io), 9 I/O (122) (io), 10 I/O (125) (io), 11 GND (power), 12 VCC (power), 13 I/O (128) (io), 14 I/O (131) (io), 15 I/O (134) (io), 16 I/O (140) (io), 17 I/O (143) (io), 18 I/O (152) (io), 19 I/O (155) (io), 20 I/O (164) (io), 21 I/O, GCK2 (167) (io), 22 M1 (170) (in), 23 GND (power), 24 M0 (173) (in), 25 VCC (power), 26 PWRDWN (in), 27 I/O, GCK3 (174) (io), 28 I/O (HDC) (177) (io), 29 I/O (186) (io), 30 I/O (LDC) (189) (io), 31 I/O (198) (io), 32 I/O (201) (io), 33 I/O (204) (io), 34 I/O (207) (io), 35 I/O (210) (io), 36 I/O (INIT) (213) (io), 37 VCC (power), 38 GND (power), 39 I/O (216) (io), 40 I/O (219) (io), 41 I/O (222) (io), 42 I/O (225) (io), 43 I/O (228) (io), 44 I/O (231) (io), 45 I/O (240) (io), 46 I/O (243) (io), 47 I/O (252) (io), 48 I/O, GCK4 (255) (io), 49 GND (power), 50 DONE (io), 51 VCC (power), 52 PROGRAM (in), 53 I/O (D7) (258) (io), 54 I/O, GCK5 (261) (io), 55 I/O (D6) (270) (io), 56 I/O (273) (io), 57 I/O (D5) (282) (io), 58 I/O (285) (io), 59 I/O (288) (io), 60 I/O (291) (io), 61 I/O (D4) (294) (io), 62 I/O (297) (io), 63 VCC (power), 64 GND (power), 65 I/O (D3) (300) (io), 66 I/O (303) (io), 67 I/O (306) (io), 68 I/O (D2) (312) (io), 69 I/O (315) (io), 70 I/O (D1) (324) (io), 71 I/O (327) (io), 72 I/O (D0, DIN) (336) (io), 73 I/O, GCK6 (DOUT) (339) (io), 74 CCLK (io), 75 VCC (power), 76 O, TDO (0) (hiz), 77 GND (power), 78 I/O (2) (io), 79 I/O, GCK7 (5) (io), 80 I/O (CS1) (14) (io), 81 I/O (17) (io), 82 I/O (26) (io), 83 I/O (29) (io), 84 I/O (32) (io), 85 I/O (35) (io), 86 I/O (38) (io), 87 I/O (41) (io), 88 GND (power), 89 VCC (power), 90 I/O (44) (io), 91 I/O (47) (io), 92 I/O (50) (io), 93 I/O (53) (io), 94 I/O (56) (io), 95 I/O (59) (io), 96 I/O (68) (io), 97 I/O (71) (io), 98 I/O (80) (io), 99 I/O, GCK8 (83) (io), 100 VCC (power)

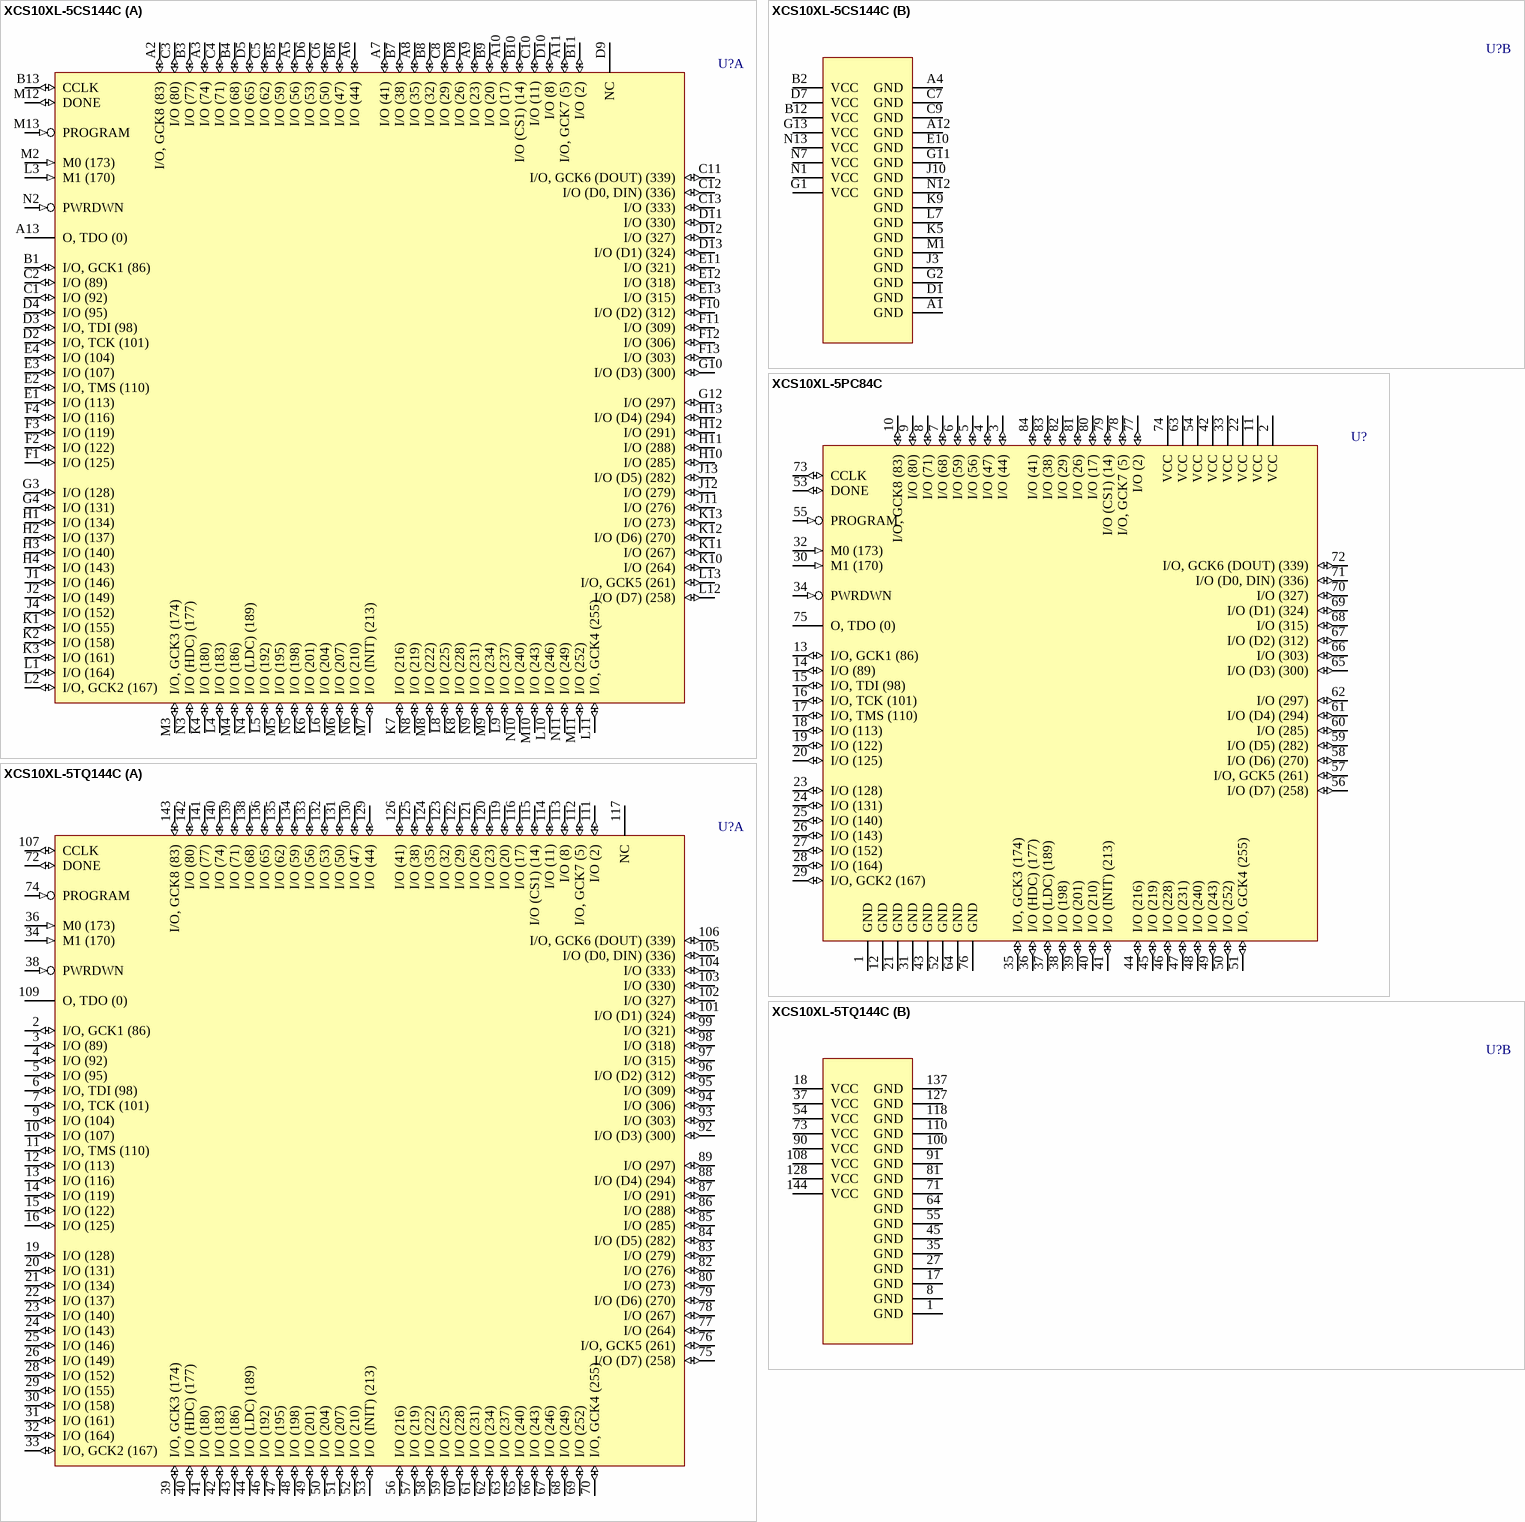
[diagram p3: symbols XCS10XL-5CS144C to XCS10XL-5TQ144C]

## XCS10XL-5CS144C
designator U?
Spartan XL FPGA, 112 User I/Os, 144-Ball CSBGA, Speed Grade 5, Commercial Grade; Published: 13-Jul-2001; LatestRevisionDate: 16-Nov-2009; LatestRevisionNote: Updated to datasheet version 1.8 Jun-2008; DatasheetVersion: ver1.8, Jun-2008; PackageVersion: ver1.3, Jan-2007; PackageReference: CS144; Publisher: Altium Limited; PackageDescription: 144-Ball Chip Scale Ball Grid Array (CS144); Supplier 1: Digi-Key; Supplier Part Number 1: XCS10XL-5CS144C-ND; Code_JEDEC: MO-216-BAG-2 (Depopulated); ComponentLink1Description: Spartan(XL) Datasheet; ComponentLink1URL: http://www.xilinx.com/support/documentation/data_sheets/ds060.pdf; ComponentLink2Description: Discontinuation Notice; ComponentLink2URL: http://www.xilinx.com/support/documentation/customer_notices/pdn2004-01.pdf; ComponentLink3Description: CS144 Package Drawing; ComponentLink3URL: http://www.xilinx.com/support/documentation/package_specs/cs144.pdf; ComponentLink4Description: Spartan(XL) Documents; ComponentLink4URL: http://www.xilinx.com/support/documentation/spartan-xl.htm; ComponentLink5Description: Xilinx.com Home; ComponentLink5URL: http://www.xilinx.com
footprint CS144 (BGA, 144-Leads, Body 12x12mm, Pitch 0.8mm)
part A pins: A2 I/O, GCK8 (83) (io), A3 I/O (74) (io), A5 I/O (56) (io), A6 I/O (44) (io), A7 I/O (41) (io), A8 I/O (35) (io), A9 I/O (23) (io), A10 I/O (17) (io), A11 I/O, GCK7 (5) (io), A13 O, TDO (0) (hiz), B1 I/O, GCK1 (86) (io), B3 I/O (77) (io), B4 I/O (68) (io), B5 I/O (59) (io), B6 I/O (47) (io), B7 I/O (38) (io), B8 I/O (32) (io), B9 I/O (20) (io), B10 I/O (CS1) (14) (io), B11 I/O (2) (io), B13 CCLK (io), C1 I/O (92) (io), C2 I/O (89) (io), C3 I/O (80) (io), C4 I/O (71) (io), C5 I/O (62) (io), C6 I/O (50) (io), C8 I/O (29) (io), C10 I/O (11) (io), C11 I/O, GCK6 (DOUT) (339) (io), C12 I/O (D0, DIN) (336) (io), C13 I/O (333) (io), D2 I/O, TCK (101) (io), D3 I/O, TDI (98) (io), D4 I/O (95) (io), D5 I/O (65) (io), D6 I/O (53) (io), D8 I/O (26) (io), D9 NC, D10 I/O (8) (io), D11 I/O (330) (io), D12 I/O (327) (io), D13 I/O (D1) (324) (io), E1 I/O (113) (io), E2 I/O, TMS (110) (io), E3 I/O (107) (io), E4 I/O (104) (io), E11 I/O (321) (io), E12 I/O (318) (io), E13 I/O (315) (io), F1 I/O (125) (io), F2 I/O (122) (io), F3 I/O (119) (io), F4 I/O (116) (io), F10 I/O (D2) (312) (io), F11 I/O (309) (io), F12 I/O (306) (io), F13 I/O (303) (io), G3 I/O (128) (io), G4 I/O (131) (io), G10 I/O (D3) (300) (io), G12 I/O (297) (io), H1 I/O (134) (io), H2 I/O (137) (io), H3 I/O (140) (io), H4 I/O (143) (io), H10 I/O (285) (io), H11 I/O (288) (io), H12 I/O (291) (io), H13 I/O (D4) (294) (io), J1 I/O (146) (io), J2 I/O (149) (io), J4 I/O (152) (io), J11 I/O (276) (io), J12 I/O (279) (io), J13 I/O (D5) (282) (io), K1 I/O (155) (io), K2 I/O (158) (io), K3 I/O (161) (io), K4 I/O (180) (io), K6 I/O (201) (io), K7 I/O (216) (io), K8 I/O (228) (io), K10 I/O (264) (io), K11 I/O (267) (io), K12 I/O (D6) (270) (io), K13 I/O (273) (io), L1 I/O (164) (io), L2 I/O, GCK2 (167) (io), L3 M1 (170) (in), L4 I/O (183) (io), L5 I/O (192) (io), L6 I/O (204) (io), L8 I/O (225) (io), L9 I/O (237) (io), L10 I/O (246) (io), L11 I/O, GCK4 (255) (io), L12 I/O (D7) (258) (io), L13 I/O, GCK5 (261) (io), M2 M0 (173) (in), M3 I/O, GCK3 (174) (io), M4 I/O (186) (io), M5 I/O (195) (io), M6 I/O (207) (io), M7 I/O (INIT) (213) (io), M8 I/O (222) (io), M9 I/O (234) (io), M10 I/O (243) (io), M11 I/O (252) (io), M12 DONE (io), M13 PROGRAM (in), N2 PWRDWN (in), N3 I/O (HDC) (177) (io), N4 I/O (LDC) (189) (io), N5 I/O (198) (io), N6 I/O (210) (io), N8 I/O (219) (io), N9 I/O (231) (io), N10 I/O (240) (io), N11 I/O (249) (io)
part B pins: A1 GND (power), A4 GND (power), A12 GND (power), B2 VCC (power), B12 VCC (power), C7 GND (power), C9 GND (power), D1 GND (power), D7 VCC (power), E10 GND (power), G1 VCC (power), G2 GND (power), G11 GND (power), G13 VCC (power), J3 GND (power), J10 GND (power), K5 GND (power), K9 GND (power), L7 GND (power), M1 GND (power), N1 VCC (power), N7 VCC (power), N12 GND (power), N13 VCC (power)

## XCS10XL-5PC84C
designator U?
Spartan XL FPGA, 61 User I/Os, 84-Pin PLCC, Speed Grade 5, Commercial Grade; Published: 13-Jul-2001; LatestRevisionDate: 16-Nov-2009; LatestRevisionNote: Updated to datasheet version 1.8 Jun-2008; DatasheetVersion: ver1.8, Jun-2008; PackageVersion: ver1.2, Jun-2004; PackageReference: PC84; Publisher: Altium Limited; PackageDescription: 84-Pin Plastic Leaded Chip Carrier (PC84); Supplier 1: Digi-Key; Supplier Part Number 1: XCS10XL-5PC84C-ND; Code_JEDEC: MS-047; Code_IPC: PLCC-84; ComponentLink1Description: Spartan(XL) Datasheet; ComponentLink1URL: http://www.xilinx.com/support/documentation/data_sheets/ds060.pdf; ComponentLink2Description: Discontinuation Notice; ComponentLink2URL: http://www.xilinx.com/support/documentation/customer_notices/pdn2004-01.pdf; ComponentLink3Description: PC84 Package Drawing; ComponentLink3URL: http://www.xilinx.com/support/documentation/package_specs/pc84.pdf; ComponentLink4Description: Spartan(XL) Documents; ComponentLink4URL: http://www.xilinx.com/support/documentation/spartan-xl.htm; ComponentLink5Description: Xilinx.com Home; ComponentLink5URL: http://www.xilinx.com
footprint PC84_N (Leaded Chip Carrier, 84-Leads, Body 29.3x29.3mm, Pitch 1.27mm, IPC Medium Density)
footprint PC84_L (Leaded Chip Carrier, 84-Leads, Body 29.3x29.3mm, Pitch 1.27mm, IPC High Density)
footprint PC84_M (Leaded Chip Carrier, 84-Leads, Body 29.3x29.3mm, Pitch 1.27mm, IPC Low Density)
pins: 1 GND (power), 2 VCC (power), 3 I/O (44) (io), 4 I/O (47) (io), 5 I/O (56) (io), 6 I/O (59) (io), 7 I/O (68) (io), 8 I/O (71) (io), 9 I/O (80) (io), 10 I/O, GCK8 (83) (io), 11 VCC (power), 12 GND (power), 13 I/O, GCK1 (86) (io), 14 I/O (89) (io), 15 I/O, TDI (98) (io), 16 I/O, TCK (101) (io), 17 I/O, TMS (110) (io), 18 I/O (113) (io), 19 I/O (122) (io), 20 I/O (125) (io), 21 GND (power), 22 VCC (power), 23 I/O (128) (io), 24 I/O (131) (io), 25 I/O (140) (io), 26 I/O (143) (io), 27 I/O (152) (io), 28 I/O (164) (io), 29 I/O, GCK2 (167) (io), 30 M1 (170) (in), 31 GND (power), 32 M0 (173) (in), 33 VCC (power), 34 PWRDWN (in), 35 I/O, GCK3 (174) (io), 36 I/O (HDC) (177) (io), 37 I/O (LDC) (189) (io), 38 I/O (198) (io), 39 I/O (201) (io), 40 I/O (210) (io), 41 I/O (INIT) (213) (io), 42 VCC (power), 43 GND (power), 44 I/O (216) (io), 45 I/O (219) (io), 46 I/O (228) (io), 47 I/O (231) (io), 48 I/O (240) (io), 49 I/O (243) (io), 50 I/O (252) (io), 51 I/O, GCK4 (255) (io), 52 GND (power), 53 DONE (io), 54 VCC (power), 55 PROGRAM (in), 56 I/O (D7) (258) (io), 57 I/O, GCK5 (261) (io), 58 I/O (D6) (270) (io), 59 I/O (D5) (282) (io), 60 I/O (285) (io), 61 I/O (D4) (294) (io), 62 I/O (297) (io), 63 VCC (power), 64 GND (power), 65 I/O (D3) (300) (io), 66 I/O (303) (io), 67 I/O (D2) (312) (io), 68 I/O (315) (io), 69 I/O (D1) (324) (io), 70 I/O (327) (io), 71 I/O (D0, DIN) (336) (io), 72 I/O, GCK6 (DOUT) (339) (io), 73 CCLK (io), 74 VCC (power), 75 O, TDO (0) (hiz), 76 GND (power), 77 I/O (2) (io), 78 I/O, GCK7 (5) (io), 79 I/O (CS1) (14) (io), 80 I/O (17) (io), 81 I/O (26) (io), 82 I/O (29) (io), 83 I/O (38) (io), 84 I/O (41) (io)

## XCS10XL-5TQ144C
designator U?
Spartan XL FPGA, 112 User I/Os, 144-Pin TQFP, Speed Grade 5, Commercial Grade; Published: 13-Jul-2001; LatestRevisionDate: 16-Nov-2009; LatestRevisionNote: Updated to datasheet version 1.8 Jun-2008; DatasheetVersion: ver1.8, Jun-2008; PackageVersion: ver1.2, Jun-2004; PackageReference: TQ144; Publisher: Altium Limited; PackageDescription: 144-Pin Thin Quad Flat Pack (TQ144); Supplier 1: Digi-Key; Supplier Part Number 1: XCS10XL-5TQ144C-ND; Code_JEDEC: MS-026-BFB; ComponentLink1Description: Spartan(XL) Datasheet; ComponentLink1URL: http://www.xilinx.com/support/documentation/data_sheets/ds060.pdf; ComponentLink2Description: TQ144 Package Drawing; ComponentLink2URL: http://www.xilinx.com/support/documentation/package_specs/tq144.pdf; ComponentLink3Description: Spartan(XL) Documents; ComponentLink3URL: http://www.xilinx.com/support/documentation/spartan-xl.htm; ComponentLink4Description: Xilinx.com Home; ComponentLink4URL: http://www.xilinx.com
footprint TQ144_N (Thin QFP, 144-Leads, Body 20x20mm, Pitch 0.5mm, IPC Medium Density)
footprint TQ144_L (Thin QFP, 144-Leads, Body 20x20mm, Pitch 0.5mm, IPC High Density)
footprint TQ144_M (Thin QFP, 144-Leads, Body 20x20mm, Pitch 0.5mm, IPC Low Density)
part A pins: 2 I/O, GCK1 (86) (io), 3 I/O (89) (io), 4 I/O (92) (io), 5 I/O (95) (io), 6 I/O, TDI (98) (io), 7 I/O, TCK (101) (io), 9 I/O (104) (io), 10 I/O (107) (io), 11 I/O, TMS (110) (io), 12 I/O (113) (io), 13 I/O (116) (io), 14 I/O (119) (io), 15 I/O (122) (io), 16 I/O (125) (io), 19 I/O (128) (io), 20 I/O (131) (io), 21 I/O (134) (io), 22 I/O (137) (io), 23 I/O (140) (io), 24 I/O (143) (io), 25 I/O (146) (io), 26 I/O (149) (io), 28 I/O (152) (io), 29 I/O (155) (io), 30 I/O (158) (io), 31 I/O (161) (io), 32 I/O (164) (io), 33 I/O, GCK2 (167) (io), 34 M1 (170) (in), 36 M0 (173) (in), 38 PWRDWN (in), 39 I/O, GCK3 (174) (io), 40 I/O (HDC) (177) (io), 41 I/O (180) (io), 42 I/O (183) (io), 43 I/O (186) (io), 44 I/O (LDC) (189) (io), 46 I/O (192) (io), 47 I/O (195) (io), 48 I/O (198) (io), 49 I/O (201) (io), 50 I/O (204) (io), 51 I/O (207) (io), 52 I/O (210) (io), 53 I/O (INIT) (213) (io), 56 I/O (216) (io), 57 I/O (219) (io), 58 I/O (222) (io), 59 I/O (225) (io), 60 I/O (228) (io), 61 I/O (231) (io), 62 I/O (234) (io), 63 I/O (237) (io), 65 I/O (240) (io), 66 I/O (243) (io), 67 I/O (246) (io), 68 I/O (249) (io), 69 I/O (252) (io), 70 I/O, GCK4 (255) (io), 72 DONE (io), 74 PROGRAM (in), 75 I/O (D7) (258) (io), 76 I/O, GCK5 (261) (io), 77 I/O (264) (io), 78 I/O (267) (io), 79 I/O (D6) (270) (io), 80 I/O (273) (io), 82 I/O (276) (io), 83 I/O (279) (io), 84 I/O (D5) (282) (io), 85 I/O (285) (io), 86 I/O (288) (io), 87 I/O (291) (io), 88 I/O (D4) (294) (io), 89 I/O (297) (io), 92 I/O (D3) (300) (io), 93 I/O (303) (io), 94 I/O (306) (io), 95 I/O (309) (io), 96 I/O (D2) (312) (io), 97 I/O (315) (io), 98 I/O (318) (io), 99 I/O (321) (io), 101 I/O (D1) (324) (io), 102 I/O (327) (io), 103 I/O (330) (io), 104 I/O (333) (io), 105 I/O (D0, DIN) (336) (io), 106 I/O, GCK6 (DOUT) (339) (io), 107 CCLK (io), 109 O, TDO (0) (hiz), 111 I/O (2) (io), 112 I/O, GCK7 (5) (io), 113 I/O (8) (io), 114 I/O (11) (io), 115 I/O (CS1) (14) (io), 116 I/O (17) (io), 117 NC, 119 I/O (20) (io), 120 I/O (23) (io), 121 I/O (26) (io), 122 I/O (29) (io), 123 I/O (32) (io), 124 I/O (35) (io), 125 I/O (38) (io), 126 I/O (41) (io), 129 I/O (44) (io), 130 I/O (47) (io), 131 I/O (50) (io), 132 I/O (53) (io), 133 I/O (56) (io), 134 I/O (59) (io), 135 I/O (62) (io), 136 I/O (65) (io), 138 I/O (68) (io), 139 I/O (71) (io), 140 I/O (74) (io), 141 I/O (77) (io), 142 I/O (80) (io), 143 I/O, GCK8 (83) (io)
part B pins: 1 GND (power), 8 GND (power), 17 GND (power), 18 VCC (power), 27 GND (power), 35 GND (power), 37 VCC (power), 45 GND (power), 54 VCC (power), 55 GND (power), 64 GND (power), 71 GND (power), 73 VCC (power), 81 GND (power), 90 VCC (power), 91 GND (power), 100 GND (power), 108 VCC (power), 110 GND (power), 118 GND (power), 127 GND (power), 128 VCC (power), 137 GND (power), 144 VCC (power)

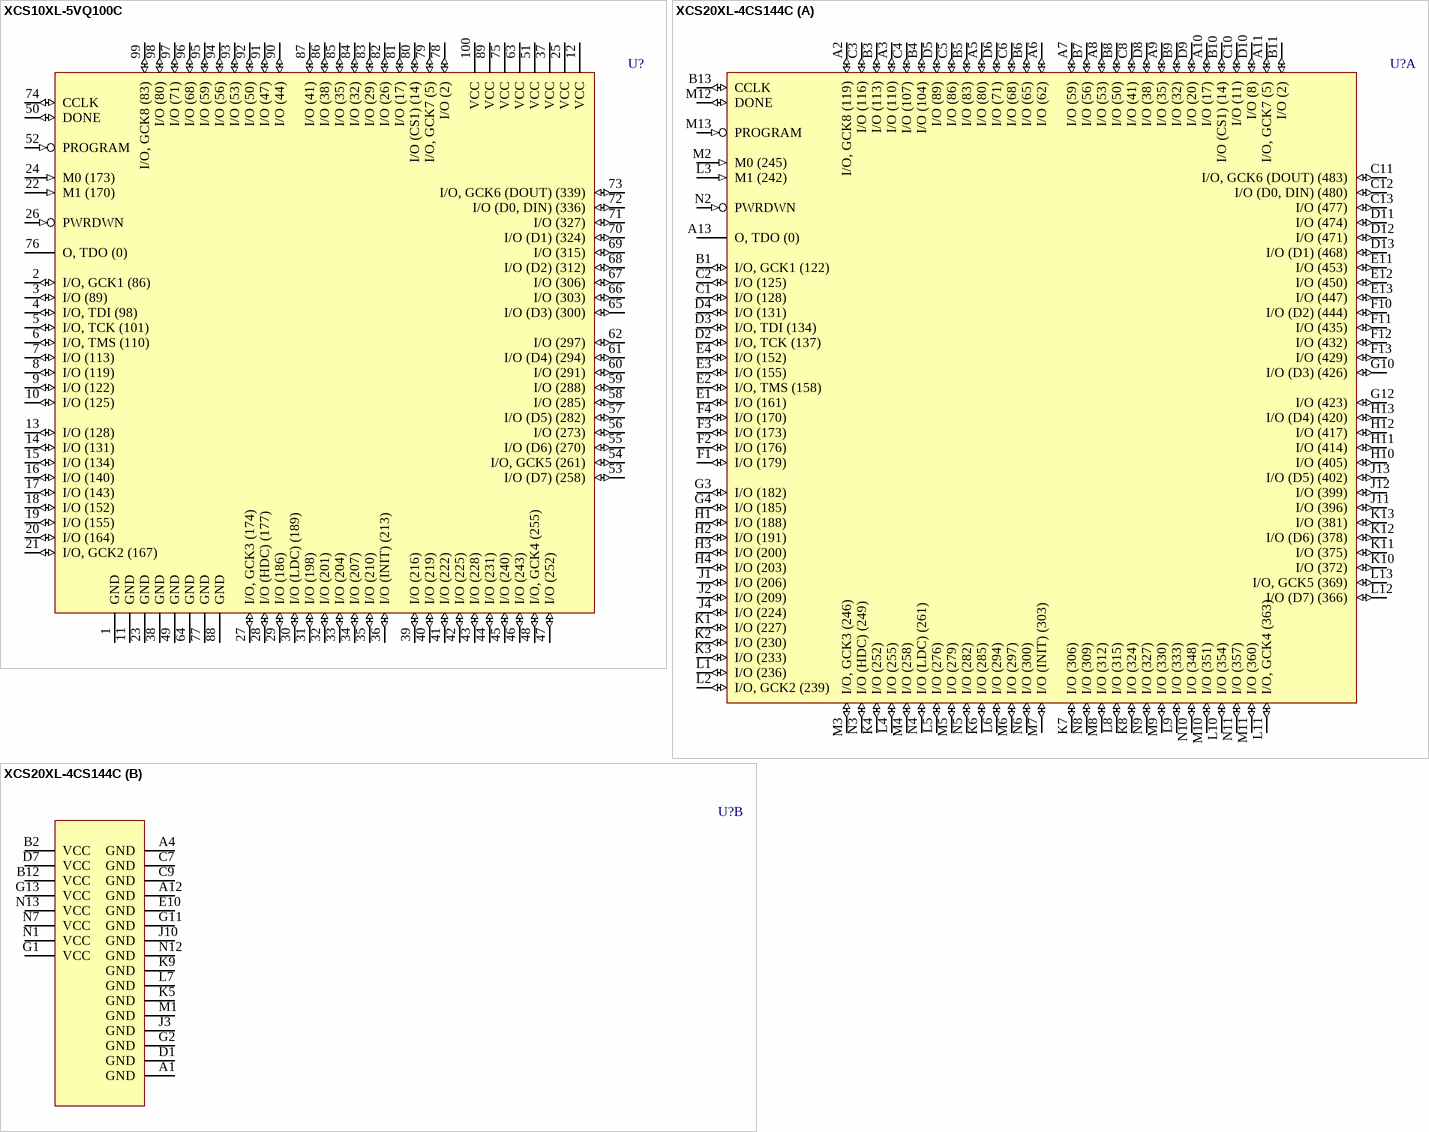
[diagram p4: symbols XCS10XL-5VQ100C to XCS20XL-4CS144C]

## XCS10XL-5VQ100C
designator U?
Spartan XL FPGA, 77 User I/Os, 100-Pin VQFP, Speed Grade 5, Commercial Grade; Published: 13-Jul-2001; LatestRevisionDate: 16-Nov-2009; LatestRevisionNote: Updated to datasheet version 1.8 Jun-2008; DatasheetVersion: ver1.8, Jun-2008; PackageVersion: ver1.2.1, Feb-2007; PackageReference: VQ100; Publisher: Altium Limited; PackageDescription: 100-Pin Very Thin Quad Flat Pack (VQ100); Supplier 1: Digi-Key; Supplier Part Number 1: XCS10XL-5VQ100C-ND; Code_JEDEC: MS-026-AED; ComponentLink1Description: Spartan(XL) Datasheet; ComponentLink1URL: http://www.xilinx.com/support/documentation/data_sheets/ds060.pdf; ComponentLink2Description: VQ100 Package Drawing; ComponentLink2URL: http://www.xilinx.com/support/documentation/package_specs/vq100.pdf; ComponentLink3Description: Spartan(XL) Documents; ComponentLink3URL: http://www.xilinx.com/support/documentation/spartan-xl.htm; ComponentLink4Description: Xilinx.com Home; ComponentLink4URL: http://www.xilinx.com
footprint VQ100_N (Thin QFP, 100-Leads, Body 14x14mm, Pitch 0.5mm, IPC Medium Density)
footprint VQ100_L (Thin QFP, 100-Leads, Body 14x14mm, Pitch 0.5mm, IPC High Density)
footprint VQ100_M (Thin QFP, 100-Leads, Body 14x14mm, Pitch 0.5mm, IPC Low Density)
pins: 1 GND (power), 2 I/O, GCK1 (86) (io), 3 I/O (89) (io), 4 I/O, TDI (98) (io), 5 I/O, TCK (101) (io), 6 I/O, TMS (110) (io), 7 I/O (113) (io), 8 I/O (119) (io), 9 I/O (122) (io), 10 I/O (125) (io), 11 GND (power), 12 VCC (power), 13 I/O (128) (io), 14 I/O (131) (io), 15 I/O (134) (io), 16 I/O (140) (io), 17 I/O (143) (io), 18 I/O (152) (io), 19 I/O (155) (io), 20 I/O (164) (io), 21 I/O, GCK2 (167) (io), 22 M1 (170) (in), 23 GND (power), 24 M0 (173) (in), 25 VCC (power), 26 PWRDWN (in), 27 I/O, GCK3 (174) (io), 28 I/O (HDC) (177) (io), 29 I/O (186) (io), 30 I/O (LDC) (189) (io), 31 I/O (198) (io), 32 I/O (201) (io), 33 I/O (204) (io), 34 I/O (207) (io), 35 I/O (210) (io), 36 I/O (INIT) (213) (io), 37 VCC (power), 38 GND (power), 39 I/O (216) (io), 40 I/O (219) (io), 41 I/O (222) (io), 42 I/O (225) (io), 43 I/O (228) (io), 44 I/O (231) (io), 45 I/O (240) (io), 46 I/O (243) (io), 47 I/O (252) (io), 48 I/O, GCK4 (255) (io), 49 GND (power), 50 DONE (io), 51 VCC (power), 52 PROGRAM (in), 53 I/O (D7) (258) (io), 54 I/O, GCK5 (261) (io), 55 I/O (D6) (270) (io), 56 I/O (273) (io), 57 I/O (D5) (282) (io), 58 I/O (285) (io), 59 I/O (288) (io), 60 I/O (291) (io), 61 I/O (D4) (294) (io), 62 I/O (297) (io), 63 VCC (power), 64 GND (power), 65 I/O (D3) (300) (io), 66 I/O (303) (io), 67 I/O (306) (io), 68 I/O (D2) (312) (io), 69 I/O (315) (io), 70 I/O (D1) (324) (io), 71 I/O (327) (io), 72 I/O (D0, DIN) (336) (io), 73 I/O, GCK6 (DOUT) (339) (io), 74 CCLK (io), 75 VCC (power), 76 O, TDO (0) (hiz), 77 GND (power), 78 I/O (2) (io), 79 I/O, GCK7 (5) (io), 80 I/O (CS1) (14) (io), 81 I/O (17) (io), 82 I/O (26) (io), 83 I/O (29) (io), 84 I/O (32) (io), 85 I/O (35) (io), 86 I/O (38) (io), 87 I/O (41) (io), 88 GND (power), 89 VCC (power), 90 I/O (44) (io), 91 I/O (47) (io), 92 I/O (50) (io), 93 I/O (53) (io), 94 I/O (56) (io), 95 I/O (59) (io), 96 I/O (68) (io), 97 I/O (71) (io), 98 I/O (80) (io), 99 I/O, GCK8 (83) (io), 100 VCC (power)